# EAGLE library part RX220 (library Micon)
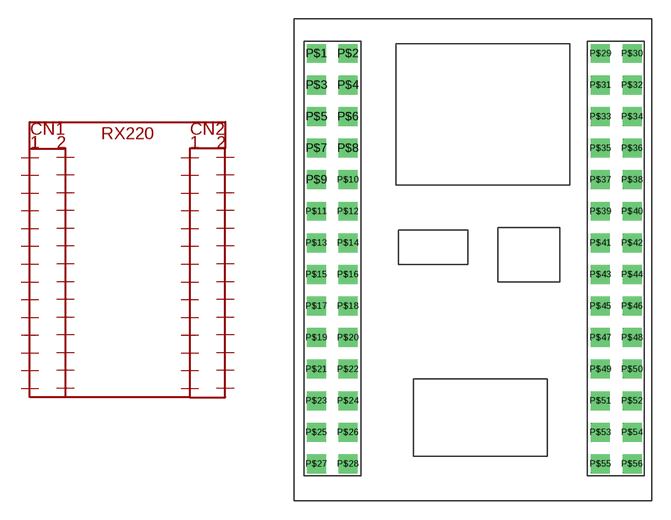
[diagram p1: symbol with the pads of RX220; footprint RX220]

Designator prefix -

## RX220  [RX220]
P$1  P$1
P$2  P$2
P$3  P$3
P$4  P$4
P$5  P$5
P$6  P$6
P$7  P$7
P$8  P$8
P$9  P$9
P$10  P$10
P$11  P$11
P$12  P$12
P$13  P$13
P$14  P$14
P$15  P$15
P$16  P$16
P$17  P$17
P$18  P$18
P$19  P$19
P$20  P$20
P$21  P$21
P$22  P$22
P$23  P$23
P$24  P$24
P$25  P$25
P$26  P$26
P$27  P$27
P$28  P$28
P$29  P$29
P$30  P$30
P$31  P$31
P$32  P$32
P$33  P$33
P$34  P$34
P$35  P$35
P$36  P$36
P$37  P$37
P$38  P$38
P$39  P$39
P$40  P$40
P$41  P$41
P$42  P$42
P$43  P$43
P$44  P$44
P$45  P$45
P$46  P$46
P$47  P$47
P$48  P$48
P$49  P$49
P$50  P$50
P$51  P$51
P$52  P$52
P$53  P$53
P$54  P$54
P$55  P$55
P$56  P$56

## Footprint RX220 (pad centres in mm)
drill 1.016 square: P$1 0,0; P$2 2.54,0; P$3 0,-2.54; P$4 2.54,-2.54; P$5 0,-5.08; P$6 2.54,-5.08; P$7 0,-7.62; P$8 2.54,-7.62; P$9 0,-10.16; P$10 2.54,-10.16; P$11 0,-12.7; P$12 2.54,-12.7; P$13 0,-15.24; P$14 2.54,-15.24; P$15 0,-17.78; P$16 2.54,-17.78; P$17 0,-20.32; P$18 2.54,-20.32; P$19 0,-22.86; P$20 2.54,-22.86; P$21 0,-25.4; P$22 2.54,-25.4; P$23 0,-27.94; P$24 2.54,-27.94; P$25 0,-30.48; P$26 2.54,-30.48; P$27 0,-33.02; P$28 2.54,-33.02; P$29 22.86,0; P$30 25.4,0; P$31 22.86,-2.54; P$32 25.4,-2.54; P$33 22.86,-5.08; P$34 25.4,-5.08; P$35 22.86,-7.62; P$36 25.4,-7.62; P$37 22.86,-10.16; P$38 25.4,-10.16; P$39 22.86,-12.7; P$40 25.4,-12.7; P$41 22.86,-15.24; P$42 25.4,-15.24; P$43 22.86,-17.78; P$44 25.4,-17.78; P$45 22.86,-20.32; P$46 25.4,-20.32; P$47 22.86,-22.86; P$48 25.4,-22.86; P$49 22.86,-25.4; P$50 25.4,-25.4; P$51 22.86,-27.94; P$52 25.4,-27.94; P$53 22.86,-30.48; P$54 25.4,-30.48; P$55 22.86,-33.02; P$56 25.4,-33.02